# Altium schematic symbol library CON_DIVERSOS.SchLib: 77 symbols (part 3 of 4)
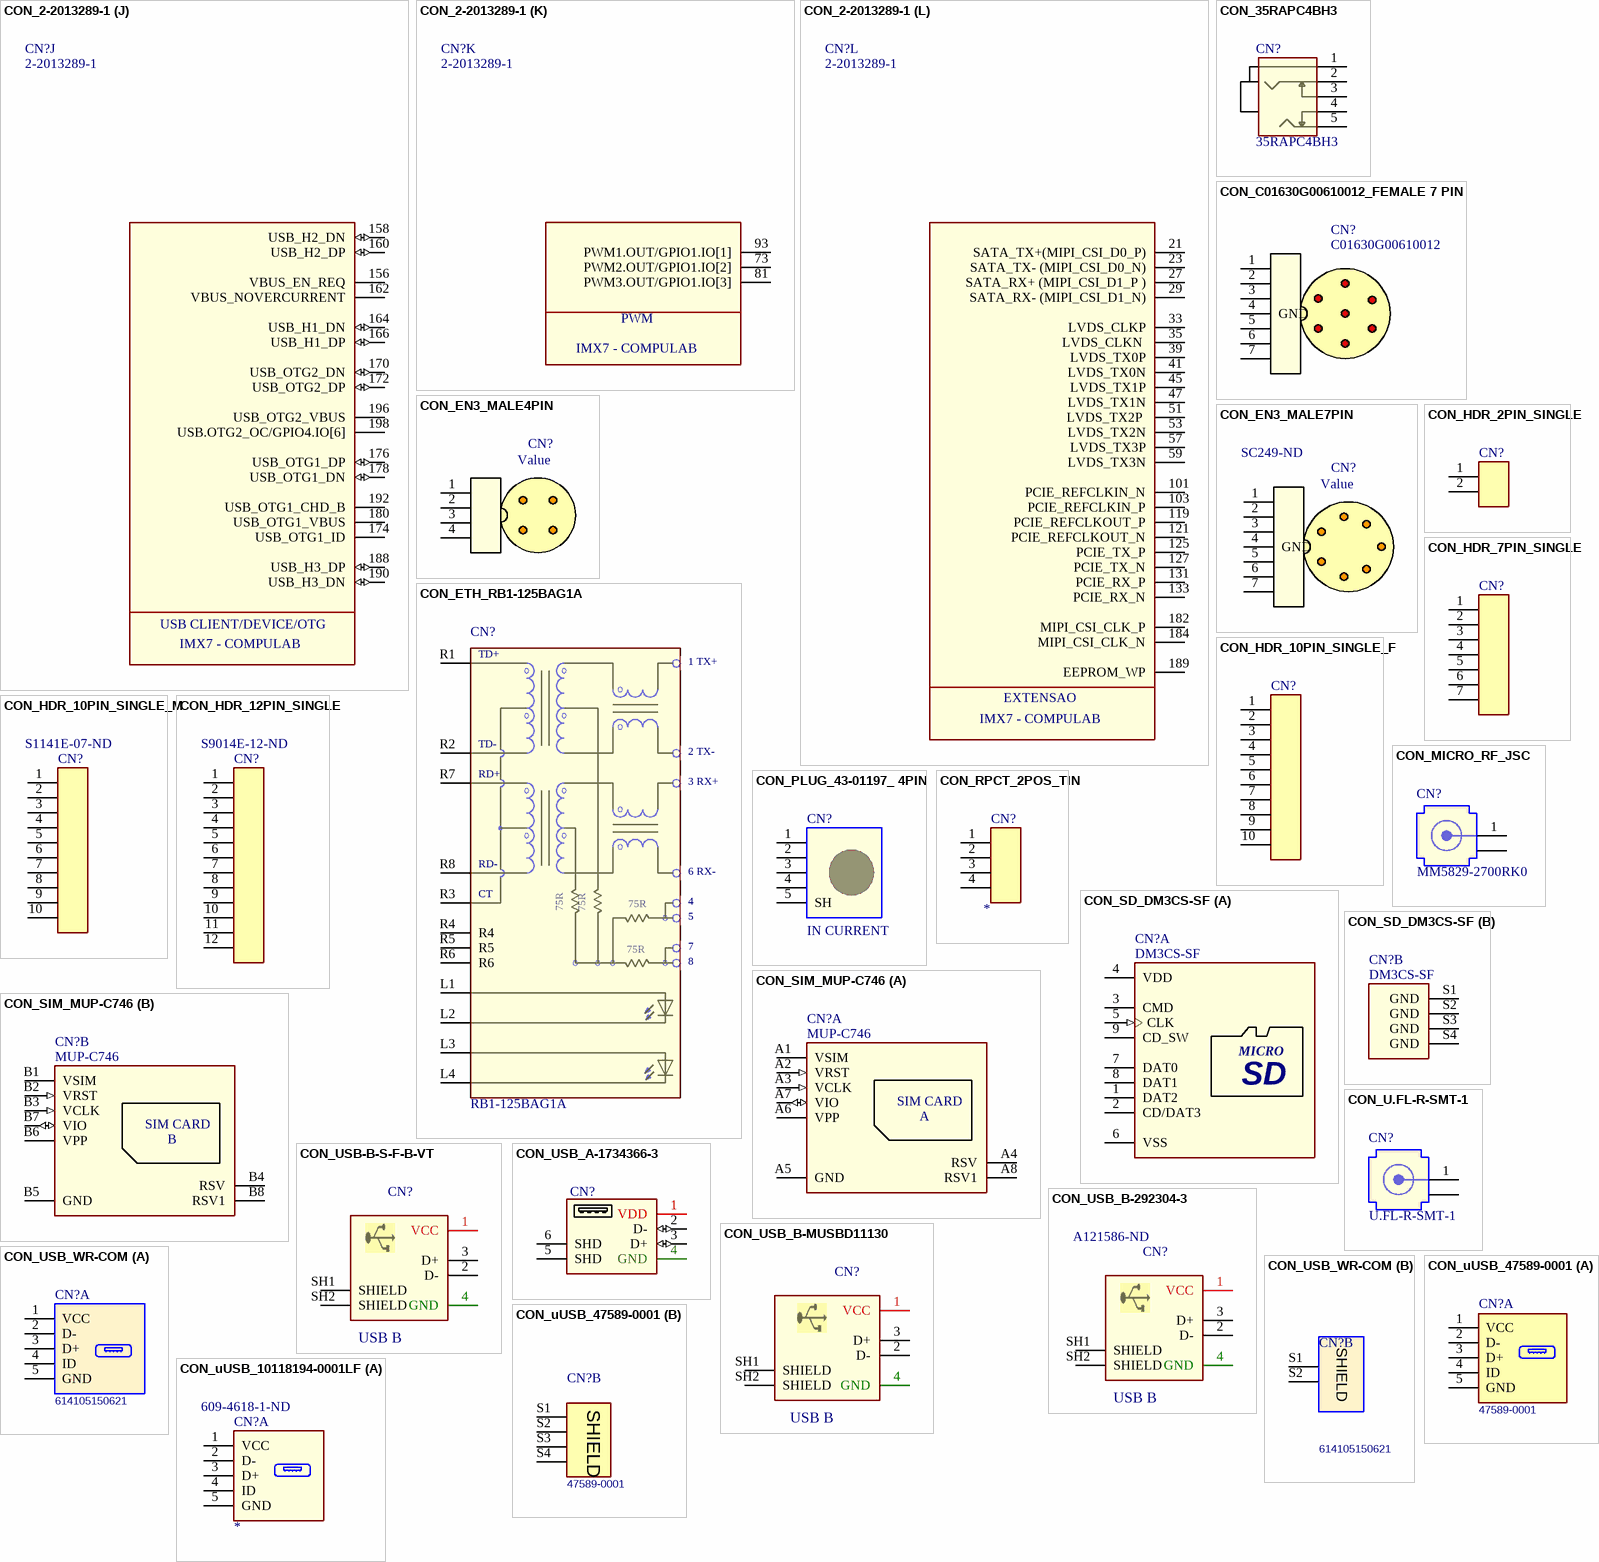
[diagram p7: symbols CON_2-2013289-1 to CON_uUSB_10118194-0001LF]

## CON_USB_B-MUSBD11130
designator CN?, comment USB B
CONN RCPT USB2.0 TYPEB 4P PCB RA; MPN: MUSBD11130-ND; Manufacturer: Amphenol Commercial; Manufacturer Part Number: MUSBD11130; fabricante: Amphenol ICC (Commercial Products); Product_Type: Connector; Gender: Receptacle; Connector Type: USB,Receptacle; Number of Ports: 1; Max Current Rating: 1.5A; Voltage Rating (DC): 100V; Number of Contacts: 4; Insulation Resistance: 1GR; Pitch: 2.5mm; Ratings: IP67,Waterproof,Dust Tight; footprint: *; Value: *; ComponentLink1Description: LOJA; ComponentLink1URL: https://www.digikey.com/products/en?keywords=292304-3; Supplier 1: Digi-Key; Supplier Part Number 1: MUSBD11130-ND; Stock 1: 1678; Pricing 1: 1=8,76000, 10=8,37500, 25=7,61400, 50=7,23340, 100=7,04300, 250=6,28156, 500=5,90086, 1000=5,49900 (USD); RoHS: Yes; Mount: Through Hole,Panel; Color: Black; Contact Plating: Gold; Contact Material: Bronze; Number of Terminals: 4; Housing Material: Thermoplastic; Min Operating Temperature: -40°C; Max Operating Temperature: 105°C; Package Quantity: 60; Packaging: Bulk; Current Rating: 1.5A; Termination: Solder; Number of Positions: 4; Orientation: Right Angle; USB Standard: USB 2.0; Features: Shielded; Length: 28mm; Depth: 18.5mm; Radiation Hardening: No; REACH SVHC: Unknown; Lead Free: Lead Free; Flammability Rating: UL94 V-0; ComponentLink2URL: https://datasheet.ciiva.com/851/musbd111xx-851379.pdf?src-supplier=Digi-Key; ComponentLink2Description: https://datasheet.ciiva.com/851/musbd111xx-851379.pdf?src-supplier=Digi-Key; ComponentLink3URL: https://datasheet.ciiva.com/11754/0900766b80fae0c2-11754939.pdf?src-supplier=RSComponents; ComponentLink3Description: https://datasheet.ciiva.com/11754/0900766b80fae0c2-11754939.pdf?src-supplier=RSComponents; ComponentLink4URL: https://datasheet.ciiva.com/10945/musbd111xx-10945157.pdf?src-supplier=Avnet; ComponentLink4Description: https://datasheet.ciiva.com/10945/musbd111xx-10945157.pdf?src-supplier=Avnet; ComponentLink5URL: https://datasheet.ciiva.com/15226/getdatasheetpartid-714005-15226501.pdf?src-supplier=Verical; ComponentLink5Description: https://datasheet.ciiva.com/15226/getdatasheetpartid-714005-15226501.pdf?src-supplier=Verical; ComponentLink6URL: https://datasheet.ciiva.com/18449/70144948-18449493.pdf?src-supplier=Allied+Electronics; ComponentLink6Description: https://datasheet.ciiva.com/18449/70144948-18449493.pdf?src-supplier=Allied+Electronics; ComponentLink7URL: https://datasheet.ciiva.com/23622/1916312-23622406.pdf?src-supplier=Newark; ComponentLink7Description: https://datasheet.ciiva.com/23622/1916312-23622406.pdf?src-supplier=Newark; ComponentLink8URL: https://datasheet.ciiva.com/3095/musbd111xx-3095277.pdf?src-supplier=Avnet; ComponentLink8Description: https://datasheet.ciiva.com/3095/musbd111xx-3095277.pdf?src-supplier=Avnet; ComponentLink9URL: https://datasheet.ciiva.com/16470/musbd111xx-16470429.pdf?src-supplier=Future+Electronics; ComponentLink9Description: https://datasheet.ciiva.com/16470/musbd111xx-16470429.pdf?src-supplier=Future+Electronics; ComponentLink10URL: https://datasheet.ciiva.com/16668/musbd111xx-16668143.pdf?src-supplier=Avnet+Europe; ComponentLink10Description: https://datasheet.ciiva.com/16668/musbd111xx-16668143.pdf?src-supplier=Avnet+Europe
footprint USB_TypeB_MUSBD11130 (USB connector type B)
pins: 1 VCC (power), 2 D-, 3 D+, 4 GND (power), SH1 SHIELD, SH2 SHIELD

## CON_USB_WR-COM
designator CN?, comment 614105150621
USB - posição do conector 5 do micro receptáculo USB 2.0 USB - CONN RCPT USB2.0 MICRO AB VERT; Manufacturer: Wurth Electronics; Fabricante: Würth Elektronik; No. of ways: 5; Gender: Receptacle; Value: 614105150621; Footprint: TH Vertical; ComponentLink1Description: DATASHEET; ComponentLink1URL: https://katalog.we-online.de/em/datasheet/614105150621.pdf; ComponentLink2Description: LOJA; ComponentLink2URL: https://www.digikey.com/product-detail/en/w-rth-elektronik/614105150621/732-5959-1-ND/5047552; Supplier 1: Digi-Key; Supplier Part Number 1: 732-5959-1-ND; Manufacturer Part Number: 614105150621; Stock 1: 2750; Pricing 1: 1=1,98000, 10=1,81400, 50=1,68000, 100=1,54600, 500=1,34400 (USD); RoHS: Yes; Mount: Through Hole,Vertical; Contact Material: Copper Alloy; Contact Plating: Gold; Packaging: Tape and Reel; Connector Type: USB; Number of Contacts: 5; Orientation: Vertical; USB Standard: USB 2.0; Features: Shielded; REACH SVHC: Unknown; ComponentLink3URL: https://www.distrelec.biz/Web/Downloads/40/29/614105150621.pdf?mime=application%2Fpdf&src-supplier=Distrelec; ComponentLink3Description: https://www.distrelec.biz/Web/Downloads/40/29/614105150621.pdf?mime=application%2Fpdf&src-supplier=Distrelec; ComponentLink4URL: http://katalog.we-online.de/em/datasheet/614105150621.pdf?src-supplier=Distrelec; ComponentLink4Description: http://katalog.we-online.de/em/datasheet/614105150621.pdf?src-supplier=Distrelec; ComponentLink5URL: http://katalog.we-online.de/em/datasheet/614105150621.pdf?src-supplier=Newark; ComponentLink5Description: http://katalog.we-online.de/em/datasheet/614105150621.pdf?src-supplier=Newark; ComponentLink6URL: http://www.farnell.com/cad/2130952.pdf?src-supplier=Element14; ComponentLink6Description: http://www.farnell.com/cad/2130952.pdf?src-supplier=Element14; ComponentLink7URL: http://katalog.we-online.de/em/datasheet/614105150621.pdf?src-supplier=Farnell; ComponentLink7Description: http://katalog.we-online.de/em/datasheet/614105150621.pdf?src-supplier=Farnell; ComponentLink8URL: http://katalog.we-online.de/em/datasheet/614105150621.pdf?src-supplier=Mouser; ComponentLink8Description: http://katalog.we-online.de/em/datasheet/614105150621.pdf?src-supplier=Mouser; ComponentLink9URL: http://katalog.we-online.de/em/datasheet/614105150621.pdf?src-supplier=Allied+Electronics; ComponentLink9Description: http://katalog.we-online.de/em/datasheet/614105150621.pdf?src-supplier=Allied+Electronics; ComponentLink10URL: https://katalog.we-online.de/em/datasheet/614105150621.pdf?src-supplier=Digi-Key; ComponentLink10Description: https://katalog.we-online.de/em/datasheet/614105150621.pdf?src-supplier=Digi-Key; ComponentLink11URL: http://katalog.we-online.de/em/datasheet/614105150621.pdf?src-supplier=RSComponents; ComponentLink11Description: http://katalog.we-online.de/em/datasheet/614105150621.pdf?src-supplier=RSComponents; MPN: 614105150621
footprint GCT_USB3105-30-A (Micro USB Connector Vertical)
part A pins: 1 VCC (power), 2 D-, 3 D+, 4 ID, 5 GND (power)
part B pins: S1 SHIELD, S2 SHIELD

## CON_uUSB_47589-0001
designator CN?, comment MPN: 47589-0001  (hidden comment: 47589-0001-5-0.65)
CONN RCPT MICRO USB AB 5P SMD RA; Fabricante: Molex; No. of ways: 5; Max Voltage Rating (AC): 100V; Gender: Female; Connector Type: USB,Receptacle; Number of Ports: 1; Contact Resistance: 40mR; Current Rating: 1.8A; Voltage Rating (AC): 30V; USB Standard: USB 2.0; Pitch: 0.65mm; Value: *; Footprint: SMD R/A; ComponentLink1Description: LOJA; ComponentLink1URL: https://www.digikey.com/product-detail/en/molex/0475890001/WM17143CT-ND/1832255; Supplier 1: Digi-Key; Supplier Part Number 1: WM17143CT-ND; Manufacturer: Molex; Manufacturer Part Number: 47589-0001; Stock 1: 14454; Pricing 1: 1=0,78000, 10=0,68200, 25=0,64160, 50=0,61480, 100=0,58810, 250=0,53460, 500=0,48114 (USD); RoHS: Yes; Mount: Surface Mount,PCB; Weight: 0.01lb; Contact Plating: Gold; Contact Material: Copper Alloy,Copper; Number of Terminals: 5; Housing Material: Polymer; Color: Black; Min Operating Temperature: -20°C; Max Operating Temperature: 85°C; Packaging: Tape and Reel; Termination: Solder; Orientation: Right Angle; Number of Contacts: 5; Voltage Rating: 30V; Length: 8.65mm; Height: 0.25inch; Width: 0.25inch; Radiation Hardening: No; REACH SVHC: Unknown; ComponentLink2URL: https://datasheet.ciiva.com/16148/0475890001-io-connectors-16148921.pdf?src-supplier=Onlinecomponents.com; ComponentLink2Description: https://datasheet.ciiva.com/16148/0475890001-io-connectors-16148921.pdf?src-supplier=Onlinecomponents.com; ComponentLink3URL: https://datasheet.ciiva.com/1098/1597783-1098478.pdf?src-supplier=Element14; ComponentLink3Description: https://datasheet.ciiva.com/1098/1597783-1098478.pdf?src-supplier=Element14; ComponentLink4URL: https://datasheet.ciiva.com/15181/getdatasheetpartid-158670-15181214.pdf?src-supplier=Verical; ComponentLink4Description: https://datasheet.ciiva.com/15181/getdatasheetpartid-158670-15181214.pdf?src-supplier=Verical; ComponentLink5URL: https://datasheet.ciiva.com/11731/0900766b80dfe0a8-11731295.pdf?src-supplier=RSComponents; ComponentLink5Description: https://datasheet.ciiva.com/11731/0900766b80dfe0a8-11731295.pdf?src-supplier=RSComponents; ComponentLink6URL: https://datasheet.ciiva.com/32371/0475890001-io-connectors-32371755.pdf?src-supplier=Onlinecomponents.com; ComponentLink6Description: https://datasheet.ciiva.com/32371/0475890001-io-connectors-32371755.pdf?src-supplier=Onlinecomponents.com
footprint T_Molex_47589-0001 (Micro USB Connector)
part A pins: 1 VCC (power), 2 D-, 3 D+, 4 ID, 5 GND (power)
part B pins: S1 SHIELD, S2 SHIELD, S3 SHIELD, S4 SHIELD

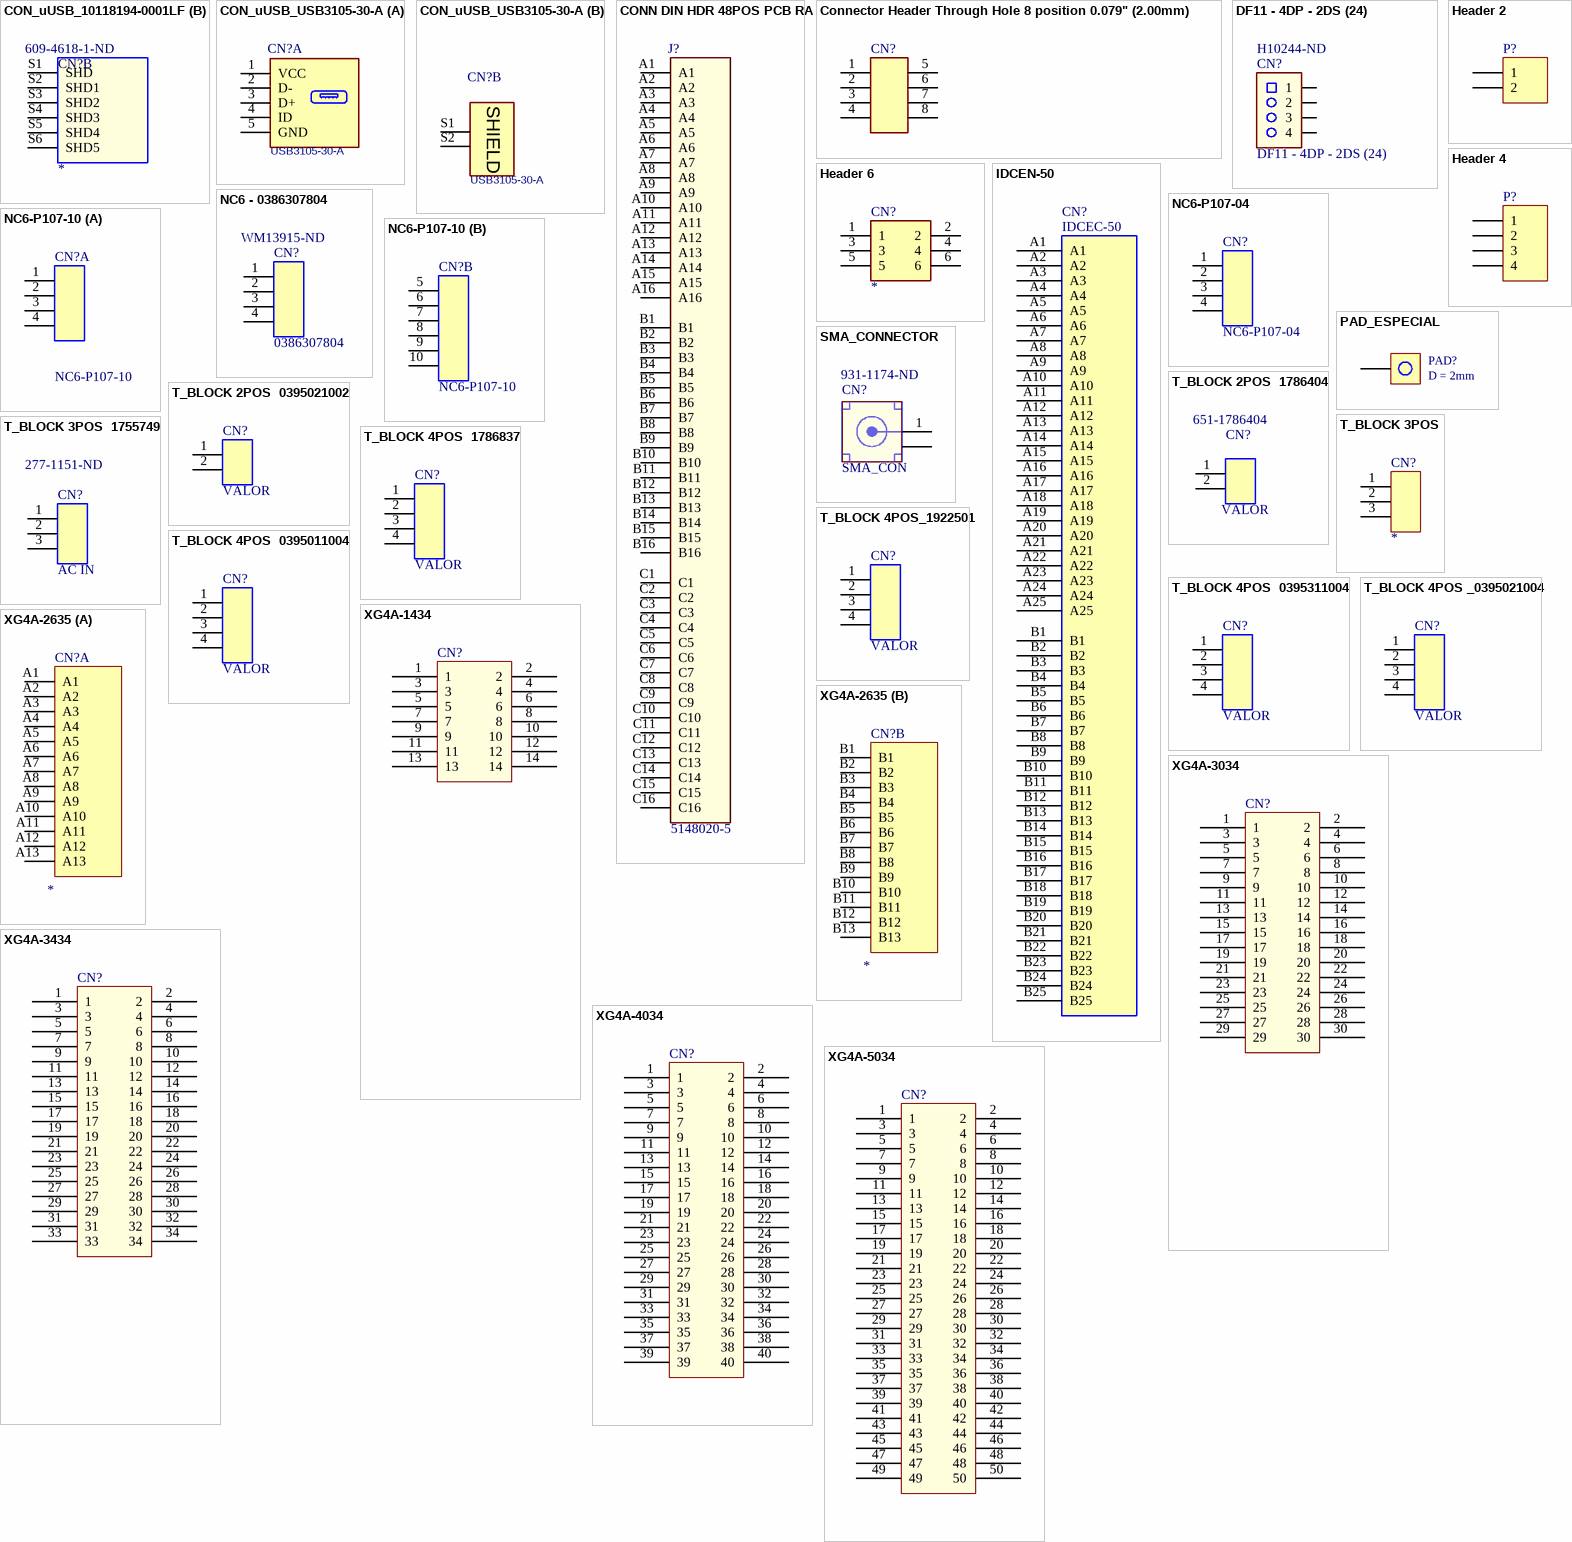
[diagram p5: symbols CON_uUSB_10118194-0001LF to XG4A-5034]

## CON_uUSB_10118194-0001LF
designator CN?  Supplier Part Number 1: 609-4618-1-ND
CONN USB MICRO B RECPT SMT R/A; MPN: 10118194-0001LF; Manufacturer: Amphenol FCI; Fabricante: Amphenol ICC; Gender: Receptacle; Current Rating: 1.8A; Connector Type: USB,Receptacle; Number of Contacts: 5; Insulation Resistance: 1GR; Number of Ports: 1; Max Voltage Rating (AC): 100V; Pitch: 0.65mm; Footprint: SMD R/A; Digi-Key_Part_Number: 609-4618-1-ND; Value: *; ComponentLink1Description: LOJA; ComponentLink1URL: https://www.digikey.com/product-detail/en/amphenol-icc-fci/10118194-0001LF/609-4618-1-ND/2785382; ComponentLink2Description: DATASHEET; ComponentLink2URL: https://cdn.amphenol-icc.com/media/wysiwyg/files/documentation/datasheet/inputoutput/io_usb_micro.pdf; Supplier 1: Digi-Key; Manufacturer Part Number: 10118194-0001LF; RoHS: Yes; Category: USB Connectors; Stock 1: 50640; Pricing 1: 1=0,43000, 10=0,40500, 25=0,36480, 50=0,32420, 100=0,31070, 250=0,28368, 500=0,27016 (USD); Mount: Surface Mount,Horizontal; Color: Black; Contact Material: Copper Alloy; Contact Plating: Gold; Number of Terminals: 5; Housing Material: Polymer; Min Operating Temperature: -55°C; Max Operating Temperature: 85°C; Package Quantity: 9600; Packaging: Tape and Reel; Termination: Solder; Orientation: Right Angle; Features: Shielded; Length: 8.05mm; Depth: 5mm; Radiation Hardening: No; Lead Free: Lead Free; Flammability Rating: UL94 V-0; ComponentLink3URL: https://datasheet.ciiva.com/4598/10118194ac-197217-4598807.pdf?src-supplier=Mouser; ComponentLink3Description: https://datasheet.ciiva.com/4598/10118194ac-197217-4598807.pdf?src-supplier=Mouser; ComponentLink4URL: https://datasheet.ciiva.com/26945/getdatasheetpartid-418619-26945695.pdf?src-supplier=Verical; ComponentLink4Description: https://datasheet.ciiva.com/26945/getdatasheetpartid-418619-26945695.pdf?src-supplier=Verical; ComponentLink5URL: https://datasheet.ciiva.com/851/10118194-851110.pdf?src-supplier=Digi-Key; ComponentLink5Description: https://datasheet.ciiva.com/851/10118194-851110.pdf?src-supplier=Digi-Key; ComponentLink6URL: https://datasheet.ciiva.com/851/10118194-851111.pdf?src-supplier=Digi-Key; ComponentLink6Description: https://datasheet.ciiva.com/851/10118194-851111.pdf?src-supplier=Digi-Key
footprint uUSB_10118194-0001LF (SMD R/A)
part A pins: 1 VCC (power), 2 D-, 3 D+, 4 ID, 5 GND
part B pins: S1 SHD, S2 SHD1, S3 SHD2, S4 SHD3, S5 SHD4, S6 SHD5

## CON_uUSB_USB3105-30-A
designator CN?, comment USB3105-30-A
Micro USB OTG Connector - TH - Vertical; Manufacturer: Global Connector Technology; Fabricante: GCT; No. of ways: 5; Gender: Receptacle; USB Standard: USB 2.0; Value: USB3105-30-A; Footprint: TH Vertical; Supplier 1: Digi-Key; Supplier Part Number 1: 2073-USB3105-30-ADKR-ND; Manufacturer Part Number: USB3105-30-A; Stock 1: 0; RoHS: Yes; Mount: Through Hole; Weight: 0.001lb; Contact Plating: Gold; Contact Material: Copper Alloy,Copper; Connector Type: USB; Termination: Through Hole; Number of Contacts: 5; Number of Positions: 5; Orientation: Vertical; Length: 0.625inch; Height: 0.625inch; Width: 0.625inch; REACH SVHC: No SVHC; Lead Free: Lead Free; ComponentLink1URL: https://datasheet.ciiva.com/28420/usb3105-28420464.pdf?src-supplier=Element14; ComponentLink1Description: https://datasheet.ciiva.com/28420/usb3105-28420464.pdf?src-supplier=Element14; ComponentLink2URL: https://datasheet.ciiva.com/22636/1688113-22636802.pdf?src-supplier=Element14; ComponentLink2Description: https://datasheet.ciiva.com/22636/1688113-22636802.pdf?src-supplier=Element14; ComponentLink3URL: https://datasheet.ciiva.com/16368/usb3105-16368828.pdf?src-supplier=Future+Electronics; ComponentLink3Description: https://datasheet.ciiva.com/16368/usb3105-16368828.pdf?src-supplier=Future+Electronics; MPN: USB3105-30-A
footprint GCT_USB3105-30-A (Micro USB Connector Vertical)
part A pins: 1 VCC (power), 2 D-, 3 D+, 4 ID, 5 GND (power)
part B pins: S1 SHIELD, S2 SHIELD

## CONN DIN HDR 48POS PCB RA
designator J?, comment 5148020-5
48 Position Din Connector Header, Male Pins  Through Hole, Right Angle; Manufacturer: TE Connectivity AMP; FABRICANTE: TE Connectivity AMP Connectors; Connector Type: Plug,Connector,Pin; Number of Positions: 48; Connector System: Board-to-Board; Make First / Break Last: No; Mating Alignment: Yes (With); Number of Columns: 16; PCB Mount Alignment: No (Without); PCB Mount Retention: With; Plating Thickness: 1.27um; Row Spacing: 2.54mm; Contact Post Length: 2.65mm; Tail Length: 3mm; Value: 148020-5; ComponentLink1Description: LOJA; ComponentLink1URL: https://www.digikey.com/products/en?mpart=148020-5&v=17; ComponentLink2Description: DATASHEET; ComponentLink2URL: https://www.te.com/commerce/DocumentDelivery/DDEController?Action=srchrtrv&DocNm=148020&DocType=Customer+Drawing&DocLang=English; MPN: 148020-5; Footprint: TE_5148020; Supplier 1: Digi-Key; Supplier Part Number 1: A107590-ND; Manufacturer Part Number: 148020-5; Stock 1: 145; Pricing 1: 1=4,42000, 10=4,24100, 25=3,88760, 50=3,71080, 100=3,53400, 250=3,09224, 500=3,00390, 1000=2,56215, 2500=2,38545 (USD); RoHS: Yes; Mount: Through Hole; Contact Plating: Nickel,Tin,Lead; Contact Material: Brass; Housing Material: Polyester; Housing Color: Grey; Color: Grey; Min Operating Temperature: -55°C; Max Operating Temperature: 125°C; Packaging: Bulk; Termination: Solder; Orientation: Right Angle; Package Quantity: 30; Number of Rows: 3; Number of Contacts: 48; Mating Retention: Yes (With); PCB Mounting Orientation: Right Angle; Pitch: 2.54mm; ELV: Compliant; Flammability Rating: UL94 V-0; ComponentLink3URL: https://datasheet.ciiva.com/15062/eng-cd-148020-d-15062786.pdf?src-supplier=Digi-Key; ComponentLink3Description: https://datasheet.ciiva.com/15062/eng-cd-148020-d-15062786.pdf?src-supplier=Digi-Key
footprint 5148020-5 (Conn DIN 41612 M 48 POS 2.54mm Solder RA Thru-Hole Tray)
pins: A1, A2, A3, A4, A5, A6, A7, A8, A9, A10, A11, A12, A13, A14, A15, A16, B1, B2, B3, B4, B5, B6, B7, B8, B9, B10, B11, B12, B13, B14, B15, B16, C1, C2, C3, C4, C5, C6, C7, C8, C9, C10, C11, C12, C13, C14, C15, C16

## Connector Header Through Hole 8 position 0.079" (2.00mm)
designator CN?, comment B8B-PHDSS(LF)(SN)  (value not drawn)
CONN HEADER VERT 8POS 2MM; Manufacturer: JST; Fabricante: JST Sales America Inc.; Connector Type: Male Pin; Number of Positions: 8; Pitch: 0.079inch; MPN: B8B-PHDSS(LF)(SN); Value: B8B-PHDSS(LF)(SN); ComponentLink1Description: LOJA; ComponentLink1URL: https://www.digikey.com/product-detail/en/sullins-connector-solutions/PBC07SBDN/S1141E-07-ND/860455; Supplier 1: Digi-Key; Supplier Part Number 1: 455-2230-ND; Manufacturer Part Number: B8B-PHDSS(LF)(SN); Stock 1: 0; Pricing 1: 1=0,46000, 10=0,43800, 100=0,30640, 500=0,26262, 1000=0,21885, 5000=0,18758, 10000=0,17508 (USD); RoHS: Yes; Mount: Through Hole; Color: Natural; Contact Plating: Tin,Lead; Packaging: Bulk; Number of Rows: 2; Termination: Solder; Fastening Type: Detent; Row Spacing: 0.079inch; Contact Mating Length: 0.114inch; Lead Free: Lead Free; ComponentLink2URL: https://datasheet.ciiva.com/16418/ephd-16418246.pdf?src-supplier=Future+Electronics; ComponentLink2Description: https://datasheet.ciiva.com/16418/ephd-16418246.pdf?src-supplier=Future+Electronics
footprint B8B-PHDSS(LF)(SN) (CONN HEADER VERT 8POS 2MM)
pins: 1, 2, 3, 4, 5, 6, 7, 8

## DF11 - 4DP - 2DS (24)
designator CN?  Supplier Part Number 2: H10244-ND
HIROSE(HRS) - DF11-4DP-2DS(24) - Wire-To-Board Connector, Right Angle, DF11 Series, Through Hole, Header, 4, 2 mm RoHS Compliant: Yes; Manufacturer Part Number: DF11-24DP-2DS(24); Fabricante: Hirose Electric; Number of Contacts: 24; Connector Type: Male Pin; Gender: Male; Current Rating: 2A; Voltage Rating: 250V; Contact Resistance: 30mR; Insulation Resistance: 1GR; Mating Cycles: 30; Voltage Rating (AC): 30V; Pitch: 2mm; Row Spacing: 0.079inch; Footprint: HEADER 4 PIN R/A; MPN: DF11 - 4DP - 2DS (24); Value: DF11 - 4DP - 2DS (24); ComponentLink1Description: LOJA; ComponentLink1URL: https://www.digikey.com/product-detail/en/hirose-electric-co-ltd/DF11-4DP-2DS-24/H10244-ND/934362; Supplier 1: Mouser; Supplier Part Number 1: 798-DF11-24DP-2DS24; Manufacturer: Hirose; Stock 1: 318; Pricing 1: 1=1,43000, 10=1,17000, 100=1,11000, 250=1,00000, 500=0,92800, 1000=0,79500 (USD); RoHS: Yes; Mount: Through Hole; Contact Plating: Tin; Housing Material: Polyamide; Housing Color: Black; Contact Material: Brass,Copper Alloy,Tin; Color: Black; Number of Rows: 2; Termination: Solder; Package Quantity: 18; Packaging: Rail/Tube; Number of Positions: 24; Fastening Type: Detent; Orientation: Right Angle; Contact Mating Length: 0.118inch; Lead Pitch: 2mm; Lead Free: Lead Free; REACH SVHC: No SVHC; Flammability Rating: UL94 V-0; ComponentLink2URL: https://datasheet.ciiva.com/14667/0900766b80d975f3-14667398.pdf?src-supplier=RSComponents; ComponentLink2Description: https://datasheet.ciiva.com/14667/0900766b80d975f3-14667398.pdf?src-supplier=RSComponents; ComponentLink3URL: https://datasheet.ciiva.com/11752/0900766b8080dda0-11752259.pdf?src-supplier=RSComponents; ComponentLink3Description: https://datasheet.ciiva.com/11752/0900766b8080dda0-11752259.pdf?src-supplier=RSComponents; Supplier 2: Digi-Key; Category: Headers and Wire Housings; Pricing 2: 1=0,42000, 10=0,39000, 100=0,29900, 500=0,26000, 1000=0,21450, 5000=0,18850, 10000=0,17550 (USD); Min Operating Temperature: -30°C; Max Operating Temperature: 85°C; Max Current Rating: 2A; Length: 6mm; Depth: 10mm; Radiation Hardening: No; ComponentLink4URL: https://datasheet.ciiva.com/26897/getdatasheetpartid-441253-26897573.pdf?src-supplier=Verical; ComponentLink4Description: https://datasheet.ciiva.com/26897/getdatasheetpartid-441253-26897573.pdf?src-supplier=Verical; ComponentLink5URL: https://datasheet.ciiva.com/11749/0900766b80d975f3-11749340.pdf?src-supplier=RSComponents; ComponentLink5Description: https://datasheet.ciiva.com/11749/0900766b80d975f3-11749340.pdf?src-supplier=RSComponents; ComponentLink6URL: https://datasheet.ciiva.com/16395/en-df11-20130411-16395966.pdf?src-supplier=Future+Electronics; ComponentLink6Description: https://datasheet.ciiva.com/16395/en-df11-20130411-16395966.pdf?src-supplier=Future+Electronics; ComponentLink7URL: https://datasheet.ciiva.com/7995/91550-7995527.pdf?src-supplier=Element14; ComponentLink7Description: https://datasheet.ciiva.com/7995/91550-7995527.pdf?src-supplier=Element14; ComponentLink8URL: https://datasheet.ciiva.com/14122/df11serie-eng-tds-14122263.pdf?src-supplier=Distrelec; ComponentLink8Description: https://datasheet.ciiva.com/14122/df11serie-eng-tds-14122263.pdf?src-supplier=Distrelec
footprint HRS_DF11- 4DP - 2DSA (Cabeçalho do conector no orifício, posição 4 em ângulo reto 0,079 "(2,00 mm))
pins: 1, 2, 3, 4

## Header 2
designator P?
Header, 2-Pin; Manufacturer: Wurth Electronics; Fabricante: Würth Elektronik; MNP: 61300211121; Current Rating: 3A; Voltage Rating: 250V; Number of Positions: 2; Gender: Male; Connector Type: Male Pin; Pitch: 0.1inch; ComponentLink1Description: LOJA; ComponentLink1URL: https://www.digikey.com/product-detail/en/w-rth-elektronik/61300211121/732-5315-ND/4846823; Footprint: *; Valor: *; Supplier 1: Digi-Key; Supplier Part Number 1: 732-5315-ND; Manufacturer Part Number: 61300211121; Stock 1: 113181; Pricing 1: 1=0,13000, 10=0,10600, 25=0,08800, 50=0,07400, 100=0,06700, 1000=0,06100 (USD); RoHS: Yes; Mount: Through Hole; Contact Plating: Gold; Housing Material: PBT; Contact Material: Copper Alloy,Copper; Color: Black; Min Operating Temperature: -40°C; Max Operating Temperature: 125°C; Number of Rows: 1; Contact Gender: Male; Packaging: Bulk; Termination: Through Hole; Number of Contacts: 2; Contact Mating Length: 0.236inch; REACH SVHC: Unknown; Lead Free: Lead Free; ComponentLink2URL: https://datasheet.ciiva.com/13619/6130xx11121-48870-13619345.pdf?src-supplier=Mouser; ComponentLink2Description: https://datasheet.ciiva.com/13619/6130xx11121-48870-13619345.pdf?src-supplier=Mouser
footprint HDR1X2 (Connector; Header; 2 Position)
signal-integrity model Connector
footprint HDR1X2 (Connector; Header; 2 Position)
pins: 1, 2

## Header 4
designator P?, comment Header, 4-Pin  (value not drawn)
footprint Header 4 (Header, 4-Pin)
pins: 1, 2, 3, 4

## Header 6
designator CN?
Connector Header Through Hole 6 position 0.100 _2.54mm_; MPN: 67997-206HLF; Manufacturer: Amphenol FCI; Value: COMENTÁRIO; Fabricante: Amphenol ICC; Gender: Male; Number of Positions: 6; Insulation Resistance: 5GR; Max Voltage Rating (AC): 1.5kV; Connector Type: Male Pin; Current Rating: 3A; Pitch: 2.54mm; Contact Post Length: 3.05mm; Row Spacing: 0.1inch; Footprint: 67997-206HLF; Supplier 1: Digi-Key; Supplier Part Number 1: 609-3234-ND; Manufacturer Part Number: 67997-206HLF; Stock 1: 12701; Pricing 1: 1=0,33000, 10=0,31600, 100=0,22120, 500=0,18964, 1000=0,15803, 5000=0,13545, 10000=0,12642 (USD); RoHS: Yes; Mount: Through Hole; Housing Color: Black; Housing Material: Thermoplastic; Contact Plating: Gold,GXT; Contact Material: Bronze; Color: Black; Min Operating Temperature: -65°C; Max Operating Temperature: 125°C; Orientation: Straight; Termination: Solder; Number of Contacts: 6; Number of Rows: 2; Contact Gender: Male; Packaging: Bulk; Package Quantity: 100; Voltage Rating: 1.5kV; Length: 7.62mm; Contact Mating Length: 0.23inch; Depth: 4.83mm; Radiation Hardening: No; Flammability Rating: UL94 V-0; ComponentLink1URL: https://datasheet.ciiva.com/5150/67996-223474-5150000.pdf?src-supplier=Mouser; ComponentLink1Description: https://datasheet.ciiva.com/5150/67996-223474-5150000.pdf?src-supplier=Mouser; ComponentLink2URL: https://datasheet.ciiva.com/9474/67996-9474266.pdf?src-supplier=Avnet; ComponentLink2Description: https://datasheet.ciiva.com/9474/67996-9474266.pdf?src-supplier=Avnet; ComponentLink3URL: https://datasheet.ciiva.com/728/67996-728908.pdf?src-supplier=Digi-Key; ComponentLink3Description: https://datasheet.ciiva.com/728/67996-728908.pdf?src-supplier=Digi-Key
footprint FRAMATOME_67997-206HLF
pins: 1, 2, 3, 4, 5, 6

## IDCEN-50
designator CN?, comment IDCEC-50
Fabricante: Metaltex; Footprint: *; MPN: IDCEC-50; Value: IDCEC-50
footprint IDCEN-50 (Header flat connector IDC)
pins: A1, A2, A3, A4, A5, A6, A7, A8, A9, A10, A11, A12, A13, A14, A15, A16, A17, A18, A19, A20, A21, A22, A23, A24, A25, B1, B2, B3, B4, B5, B6, B7, B8, B9, B10, B11, B12, B13, B14, B15, B16, B17, B18, B19, B20, B21, B22, B23, B24, B25

## NC6 - 0386307804
designator CN?, comment 0386307804  Supplier Part Number 1: WM13915-ND
CONN BARRIER STRP 4CIRC 0.375"; Fabricante: molex; ComponentLink1Description: LOJA; ComponentLink1URL: https://www.digikey.com/en/products/detail/molex/0386307804/3315482?s=N4IgTCBcDaIAwGYAcA2BcDsS4BYQF0BfIA; ComponentLink2Description: DATASHEET; ComponentLink2URL: https://www.molex.com/pdm_docs/sd/386307804_sd.pdf; Supplier 1: Digi-Key; Footprint: Barrier Block; MPN: 0386307804; Value: 0386307804
footprint NC6 - 0386307804 (4 Circuit 0.438" (11.12mm) Barrier Block Connector, Screws with Captive Plate)
pins: 1, 2, 3, 4

## NC6-P107-04
designator CN?
CONN BARRIER STRP 4CIRC 0.375"; Manufacturer: TE Connectivity; Fabricante: TE Connectivity AMP Connectors; Current Rating: 20A; Voltage Rating: 300V; Number of Contacts: 4; Mounting Ears: No (Without); Number of Levels: 1; Pitch: 9.53mm; value: NC6-P107-04; Footprint: Barrier Block PTH 4PIN; MPN: NC6-P107-04; ComponentLink1Description: LOJA; ComponentLink1URL: https://www.digikey.com/products/en?keywords=NC6-P107-04; ComponentLink2Description: DATASHEET; ComponentLink2URL: https://www.te.com/commerce/DocumentDelivery/DDEController?Action=srchrtrv&DocNm=1437664-4&DocType=Customer+Drawing&DocLang=English; Supplier 1: Digi-Key; Supplier Part Number 1: 1437664-6-ND; Manufacturer Part Number: NC6-P107-04; Stock 1: 2215; Pricing 1: 1=2,47000, 10=1,86700, 25=1,73040, 50=1,55580, 100=1,51790, 250=1,32816, 500=1,21432, 1000=1,10048, 5000=0,96766 (USD); RoHS: Yes; Mount: Through Hole; Color: Black; Terminal Material: Copper Alloy; Housing Color: Black; Contact Plating: Tin; Contact Material: Copper Alloy; Housing Material: Polyamide; Min Operating Temperature: -40°C; Max Operating Temperature: 221°C; Package Quantity: 200; Packaging: Bulk; Number of Rows: 1; Termination: Solder; Number of Circuits: 4; Orientation: Straight; Max Current Rating: 20A; Mounting Insert: No (Without); Voltage: 300V; Number of Positions: 4; Length: 1.559inch; Height: 0.65inch; Width: 0.63inch; Radiation Hardening: No; Flammability Rating: UL94 V-0; ELV: Compliant; ComponentLink3URL: http://www.mouser.com/ds/2/418/NG_CD_1437664-4_B1-648332.pdf?src-supplier=Mouser; ComponentLink3Description: http://www.mouser.com/ds/2/418/NG_CD_1437664-4_B1-648332.pdf?src-supplier=Mouser; ComponentLink4URL: http://www.onlinecomponents.com/datasheet/nc6p10704.aspx?p=10706578&src-supplier=Onlinecomponents.com; ComponentLink4Description: http://www.onlinecomponents.com/datasheet/nc6p10704.aspx?p=10706578&src-supplier=Onlinecomponents.com; ComponentLink5URL: https://www.te.com/commerce/DocumentDelivery/DDEController?Action=srchrtrv&amp;DocNm=1437664-4&amp;DocType=Customer+Drawing&amp;DocLang=English&src-supplier=Digi-Key; ComponentLink5Description: https://www.te.com/commerce/DocumentDelivery/DDEController?Action=srchrtrv&amp;DocNm=1437664-4&amp;DocType=Customer+Drawing&amp;DocLang=English&src-supplier=Digi-Key
footprint NC6-P107-04 (CONN BARRIER STRP 04CIRC 0.375")
pins: 1, 2, 3, 4

## NC6-P107-10
designator CN?
CONN BARRIER STRP 10CIRC 0.375"; Manufacturer: TE Connectivity AMP; Fabricante: TE Connectivity AMP Connectors; Current Rating: 20A; Voltage Rating: 300V; Number of Contacts: 10; Mounting Ears: No (Without); Number of Levels: 1; Pitch: 9.53mm; value: NC6-P107-10; Footprint: Barrier Block PTH 10 PIN; MPN: NC6-P107-10; ComponentLink1Description: DATASHEET; ComponentLink1URL: https://www.te.com/commerce/DocumentDelivery/DDEController?Action=srchrtrv&DocNm=1437664-4&DocType=Customer+Drawing&DocLang=English; ComponentLink2Description: LOJA; ComponentLink2URL: https://www.digikey.com/products/en?keywords=NC6-P107-10; Supplier 1: Digi-Key; Supplier Part Number 1: 1-1437664-4-ND; Manufacturer Part Number: NC6-P107-10; Stock 1: 627; Pricing 1: 1=5,52000, 10=4,21000, 25=3,94280, 50=3,50480, 100=3,42860, 250=3,16192, 500=2,85716, 1000=2,53334, 5000=2,38096 (USD); RoHS: Yes; Mount: Through Hole; Terminal Material: Copper Alloy; Color: Black; Contact Plating: Tin; Contact Material: Copper Alloy; Housing Material: Polyamide; Min Operating Temperature: -40°C; Max Operating Temperature: 221°C; Orientation: Straight; Number of Rows: 1; Package Quantity: 120; Termination: Screw; Number of Circuits: 10; Mounting Insert: No (Without); Voltage: 300V; Max Current Rating: 20A; Number of Positions: 10; Length: 3.809inch; Height: 0.65inch; Width: 0.63inch; Flammability Rating: UL94 V-0; ELV: Compliant; ComponentLink3URL: https://datasheet.ciiva.com/30252/eng-cs-1308389-barrier-strips-0607-30252969.pdf?src-supplier=Onlinecomponents.com; ComponentLink3Description: https://datasheet.ciiva.com/30252/eng-cs-1308389-barrier-strips-0607-30252969.pdf?src-supplier=Onlinecomponents.com
footprint NC6-P107-10 (CONN BARRIER STRP 10CIRC 0.375")
part A pins: 1, 2, 3, 4
part B pins: 5, 6, 7, 8, 9, 10

## PAD_ESPECIAL
designator PAD?, comment D = 2mm
footprint PAD_ESPECIAL (PAD DIAMENTRO 2mm)
pins: 1

## SMA_CONNECTOR
designator CN?, comment SMA_CON  Supplier Part Number 1: 931-1174-ND
CONN SMA JACK STR 50OHM EDGE MNT; Manufacturer: Taoglas; Manufacturer Part Number: EMPCB.SMAFSTJ.C.HT; Body Material: Brass; Plating: Nickel; Dielectric Material: PTFE; Polarity: Standard; Max Frequency: 12.4GHz; Insulation Resistance: 5GR; Impedance: 50R; Voltage Rating: 335V; Connector Type: SMA,Socket; ComponentLink1URL: https://datasheet.ciiva.com/29538/grm1885c1h151ga01-01-29538036.pdf?src-supplier=Digi-Key; ComponentLink1Description: https://datasheet.ciiva.com/29538/grm1885c1h151ga01-01-29538036.pdf?src-supplier=Digi-Key; Supplier 1: Digi-Key; RoHS: Yes; Category: RF / Coaxial Connectors; Stock 1: 626; Pricing 1: 1=2,89000, 100=2,82000, 500=2,64000, 1000=2,46001, 5000=2,29001, 10000=2,11000, 50000=1,98001 (USD); Mount: Edge; Case/Package: SMA; Contact Material: Brass; Contact Plating: Gold; Body Plating: Nickel; Housing Color: Silver; Termination: Solder; Package Quantity: 500; Fastening Type: Threaded; Packaging: Tray; Orientation: Straight; Frequency: 12.4GHz; ComponentLink2URL: https://datasheet.ciiva.com/12398/empcb-smafstj-c-ht-30838-12398136.pdf?src-supplier=Mouser; ComponentLink2Description: https://datasheet.ciiva.com/12398/empcb-smafstj-c-ht-30838-12398136.pdf?src-supplier=Mouser; ComponentLink3URL: https://datasheet.ciiva.com/7002/empcb-smafstj-c-ht-7002218.pdf?src-supplier=Digi-Key; ComponentLink3Description: https://datasheet.ciiva.com/7002/empcb-smafstj-c-ht-7002218.pdf?src-supplier=Digi-Key
footprint LPRS_SMA_CON
pins: 1 SIG, 2 GND, 3 GND, 4 GND, 5 GND

## T_BLOCK 2POS  1786404
designator CN?, comment VALOR  Supplier Part Number 1: 651-1786404
TERM BLOCK HDR 2POS 90DEG 5.08MM; MPN: 0395311004; Manufacturer 1: Phoenix Contact; Manufacturer Part Number 1: 1786404; Fabricante: MOLEX; Description 1: Pluggable Terminal Blocks 2 Pos 5.08mm pitch Thru Hole Invert Hdr; Number of Positions Per Level: 2; Number of Levels: 1; Current: 10A; Voltage: 300V; Current Rating: 12A; Voltage Rating: 320V; Connector Type: Socket; Approvals: UL,CSA,VDE,CB; value: VALOR; Footprint: TERM BLOCK  4POS; Supplier 1: Mouser; Stock 1: 0; Pricing 1: 1=2,23000, 10=2,17000, 25=2,11000, 50=2,02000, 100=1,86000, 250=1,72000 (USD); RoHS: Yes; Mount: Through Hole; Weight: 5.78493oz; Contact Material: Tin; Color: Green; Contact Plating: Tin; Housing Material: Polyamide; Housing Color: Green; Package Quantity: 50; Packaging: Bulk; Termination: Solder; Number of Rows: 1; Number of Poles: 2; Number of Positions: 2; Number of Contacts: 2; Max Current Rating: 12A; Orientation: Right Angle; Type: Integrated Circuit (IC); Length: 12.16mm; Height: 13.7mm; Pitch: 5.08mm; Width: 19mm; Depth: 19mm; Flammability Rating: UL94 V-0; Lead Free: Lead Free; ComponentLink1URL: https://datasheet.ciiva.com/16096/1786404-16096800.pdf?src-supplier=Onlinecomponents.com; ComponentLink1Description: https://datasheet.ciiva.com/16096/1786404-16096800.pdf?src-supplier=Onlinecomponents.com; ComponentLink2URL: https://datasheet.ciiva.com/11748/0900766b800b6097-11748807.pdf?src-supplier=RSComponents; ComponentLink2Description: https://datasheet.ciiva.com/11748/0900766b800b6097-11748807.pdf?src-supplier=RSComponents; ComponentLink3URL: https://datasheet.ciiva.com/6747/1786404-6747449.pdf?src-supplier=Digi-Key; ComponentLink3Description: https://datasheet.ciiva.com/6747/1786404-6747449.pdf?src-supplier=Digi-Key; ComponentLink4URL: https://datasheet.ciiva.com/29209/567660-da-01-de-grundgehaeuse-1786404-50-st-29209089.pdf?src-supplier=Conrad; ComponentLink4Description: https://datasheet.ciiva.com/29209/567660-da-01-de-grundgehaeuse-1786404-50-st-29209089.pdf?src-supplier=Conrad
footprint T_BLOCK_ 1786404 (2 Position Terminal Block Header, Female Sockets 0.200" (5.08mm) 90°, Right Angle  Through Hole)
pins: 1, 2

## T_BLOCK 2POS  0395021002
designator CN?, comment VALOR
TERM BLOCK HDR 2POS VERT 3.5MM; MPN: 0395021002; Fabricante: MOLEX; Contact Resistance: 8mR; Number of Positions: 2; Number of Levels: 1; Gender: Male; Current: 8A; Voltage: 300V; value: VALOR; Footprint: TERM BLOCK  4POS; ComponentLink1Description: LOJA; ComponentLink1URL: https://www.digikey.com/product-detail/en/molex/0395021002/WM7770-ND/1280621; Supplier 1: Digi-Key; Supplier Part Number 1: WM7770-ND; Manufacturer: Molex; Manufacturer Part Number: 0395021002; Stock 1: 16543; Pricing 1: 1=0,58000, 10=0,54000, 100=0,41400, 500=0,36000, 1000=0,29700, 5000=0,26100, 10000=0,24300 (USD); RoHS: Yes; Mount: Through Hole; Housing Color: Black; Contact Plating: Tin; Contact Material: Brass; Color: Black; Housing Material: Polyamide; Min Operating Temperature: -40°C; Max Operating Temperature: 105°C; Orientation: Right Angle; Number of Rows: 1; Termination: Solder; Number of Contacts: 2; Packaging: Bulk; Number of Positions Per Level: 2; Length: 8.39mm; Pitch: 3.5mm; Depth: 9.2mm; ComponentLink2URL: http://components.arrow.com/part/dataview/44158185S8381659N3303?src-supplier=Arrow; ComponentLink2Description: http://components.arrow.com/part/dataview/44158185S8381659N3303?src-supplier=Arrow; ComponentLink3URL: http://components.arrow.com/part/dataview/0323_01937424?src-supplier=Arrow+Europe; ComponentLink3Description: http://components.arrow.com/part/dataview/0323_01937424?src-supplier=Arrow+Europe; ComponentLink4URL: https://www.molex.com/pdm_docs/sd/395021002_sd.pdf?src-supplier=Digi-Key; ComponentLink4Description: https://www.molex.com/pdm_docs/sd/395021002_sd.pdf?src-supplier=Digi-Key; ComponentLink5URL: http://www.farnell.com/datasheets/1605031.pdf?src-supplier=Newark; ComponentLink5Description: http://www.farnell.com/datasheets/1605031.pdf?src-supplier=Newark; ComponentLink6URL: http://www.molex.com/webdocs/datasheets/pdf/en-us/0395021002_TERMINAL_BLOCKS.pdf?src-supplier=Avnet; ComponentLink6Description: http://www.molex.com/webdocs/datasheets/pdf/en-us/0395021002_TERMINAL_BLOCKS.pdf?src-supplier=Avnet
footprint T_BLOCK_ 0395021002_R/A (TERM BLOCK HDR 2POS 90DEG 3.5MM)
pins: 1, 2

## T_BLOCK 3POS
designator CN?
TERM BLOCK HDR 3POS VERT 3.5MM; MPN: OQ0312500000G; Manufacturer: Amphenol; Fabricante: Amphenol Anytek; value: *; Footprint: PTH, 3PIN; ComponentLink1Description: LOJA; ComponentLink1URL: https://www.digikey.com/product-detail/en/amphenol-anytek/OQ0312500000G/609-4980-ND/4243174; ComponentLink2Description: DATASHEET; ComponentLink2URL: http://portal.fciconnect.com/Comergent//fci/drawing/20020107.pdf; Supplier 1: Mouser; Supplier Part Number 1: 649-220107-C031A01LF; Manufacturer Part Number: OQ0312500000G; Stock 1: 2129; Pricing 1: 1=0,64000, 10=0,34200, 25=0,20600, 100=0,19900, 250=0,16800, 500=0,14500 (USD); RoHS: No
footprint TERM_BLOCK_OQ0312500000G (3 Position Terminal Block Header, Male Pins, Shrouded (4 Side) 0.138" (3.50mm) Vertical Through Hole)
pins: 1, 2, 3

## T_BLOCK 3POS  1755749
designator CN?, comment AC IN  Supplier Part Number 1: 277-1151-ND
TERM BLOCK HDR 3POS 90DEG 5.08MM; MPN: 0395311004; Manufacturer 1: Phoenix Contact; Manufacturer Part Number 1: 1755749; value: VALOR; Fabricante: MOLEX; Number of Positions Per Level: 2; Number of Levels: 1; Current: 10A; Voltage: 300V; Current Rating: 12A; Voltage Rating: 320V; Connector Type: Socket; Approvals: UL,CSA,VDE,CB; Description 1: TERM BLOCK HDR 3POS VERT 5.08MM; Voltage Rating (DC): 250V; Footprint: TERM BLOCK  4POS; RoHS: Yes; Mount: Through Hole; Weight: 5.78493oz; Contact Material: Tin; Color: Green; Contact Plating: Tin; Housing Material: Polyamide; Housing Color: Green; Package Quantity: 50; Packaging: Bulk; Termination: Solder; Number of Rows: 1; Number of Poles: 2; Number of Positions: 2; Number of Contacts: 2; Max Current Rating: 12A; Orientation: Right Angle; Type: Integrated Circuit (IC); Length: 12.16mm; Height: 13.7mm; Pitch: 5.08mm; Width: 19mm; Depth: 19mm; Flammability Rating: UL94 V-0; Lead Free: Lead Free; ComponentLink1URL: https://datasheet.ciiva.com/16096/1786404-16096800.pdf?src-supplier=Onlinecomponents.com; ComponentLink1Description: https://datasheet.ciiva.com/16096/1786404-16096800.pdf?src-supplier=Onlinecomponents.com; ComponentLink2URL: https://datasheet.ciiva.com/11748/0900766b800b6097-11748807.pdf?src-supplier=RSComponents; ComponentLink2Description: https://datasheet.ciiva.com/11748/0900766b800b6097-11748807.pdf?src-supplier=RSComponents; ComponentLink3URL: https://datasheet.ciiva.com/6747/1786404-6747449.pdf?src-supplier=Digi-Key; ComponentLink3Description: https://datasheet.ciiva.com/6747/1786404-6747449.pdf?src-supplier=Digi-Key; ComponentLink4URL: https://datasheet.ciiva.com/29209/567660-da-01-de-grundgehaeuse-1786404-50-st-29209089.pdf?src-supplier=Conrad; ComponentLink4Description: https://datasheet.ciiva.com/29209/567660-da-01-de-grundgehaeuse-1786404-50-st-29209089.pdf?src-supplier=Conrad; ComponentLink5URL: https://datasheet.ciiva.com/16096/1786417-16096802.pdf?src-supplier=Onlinecomponents.com; ComponentLink5Description: https://datasheet.ciiva.com/16096/1786417-16096802.pdf?src-supplier=Onlinecomponents.com; ComponentLink6URL: https://datasheet.ciiva.com/15197/getdatasheetpartid-198323-15197429.pdf?src-supplier=Verical; ComponentLink6Description: https://datasheet.ciiva.com/15197/getdatasheetpartid-198323-15197429.pdf?src-supplier=Verical; ComponentLink7URL: https://datasheet.ciiva.com/11748/0900766b800b6097-11748345.pdf?src-supplier=RSComponents; ComponentLink7Description: https://datasheet.ciiva.com/11748/0900766b800b6097-11748345.pdf?src-supplier=RSComponents; ComponentLink8URL: https://datasheet.ciiva.com/6762/1786417-6762580.pdf?src-supplier=Digi-Key; ComponentLink8Description: https://datasheet.ciiva.com/6762/1786417-6762580.pdf?src-supplier=Digi-Key; ComponentLink9URL: https://datasheet.ciiva.com/29210/569638-da-01-de-grundgehaeuse-1786417-50-st-29210794.pdf?src-supplier=Conrad; ComponentLink9Description: https://datasheet.ciiva.com/29210/569638-da-01-de-grundgehaeuse-1786417-50-st-29210794.pdf?src-supplier=Conrad; ComponentLink10URL: https://datasheet.ciiva.com/16939/70055376-16939398.pdf?src-supplier=Allied+Electronics; ComponentLink10Description: https://datasheet.ciiva.com/16939/70055376-16939398.pdf?src-supplier=Allied+Electronics; Supplier 1: Digi-Key; Stock 1: 3393; Pricing 1: 1=1,03000, 10=0,99000, 50=0,94720, 100=0,92130, 250=0,86100, 500=0,79212, 1000=0,73185, 2500=0,69741, 5000=0,65436 (USD); REACH SVHC: Unknown; ComponentLink11URL: https://datasheet.ciiva.com/15197/getdatasheetpartid-176345-15197315.pdf?src-supplier=Verical; ComponentLink11Description: https://datasheet.ciiva.com/15197/getdatasheetpartid-176345-15197315.pdf?src-supplier=Verical; ComponentLink12URL: https://datasheet.ciiva.com/795/1755749-795419.pdf?src-supplier=Digi-Key; ComponentLink12Description: https://datasheet.ciiva.com/795/1755749-795419.pdf?src-supplier=Digi-Key; ComponentLink13URL: https://datasheet.ciiva.com/16096/1755749-16096362.pdf?src-supplier=Onlinecomponents.com; ComponentLink13Description: https://datasheet.ciiva.com/16096/1755749-16096362.pdf?src-supplier=Onlinecomponents.com; ComponentLink14URL: https://datasheet.ciiva.com/29210/569612-da-01-en-grundgehaeuse-1755749-250-st-29210780.pdf?src-supplier=Conrad; ComponentLink14Description: https://datasheet.ciiva.com/29210/569612-da-01-en-grundgehaeuse-1755749-250-st-29210780.pdf?src-supplier=Conrad; ComponentLink15URL: https://datasheet.ciiva.com/33105/1755749-33105914.pdf?src-supplier=Today+Components; ComponentLink15Description: https://datasheet.ciiva.com/33105/1755749-33105914.pdf?src-supplier=Today+Components
footprint T_BLOCK 1755749
pins: 1, 2, 3

## T_BLOCK 4POS  1786837
designator CN?, comment VALOR
TERM BLOCK HDR 4POS 90DEG 3.5MM; MPN: 1786837; Manufacturer: Phoenix Contact; Manufacturer Part Number: DMC 15/ 2-G1-35 P20THR; Fabricante: MOLEX; Current Rating: 8A; Voltage Rating: 160V; Number of Positions Per Level: 2; Voltage: 150V; Connector Type: Plug; Gender: Male; Pitch: 0.138inch; value: VALOR; Footprint: TERM BLOCK  4POS; ComponentLink1Description: LOJA; ComponentLink1URL: https://www.digikey.com/product-detail/en/phoenix-contact/1786837/277-9774-ND/2743661; Supplier 1: Digi-Key; Supplier Part Number 1: 277-9774-ND; Stock 1: 564; Pricing 1: 1=1,32000, 10=1,28300, 50=1,19900, 100=1,10310, 250=1,01916, 500=0,97120, 1000=0,91124 (USD); RoHS: Yes; Mount: Through Hole; Color: Black; Contact Plating: Tin; Housing Color: Black; Housing Material: Liquid Crystal Polymer; Contact Material: Tin; Package Quantity: 50; Packaging: Bulk; Number of Levels: 2; Termination: Solder; Current: 8A; Number of Positions: 2; Number of Contacts: 2; Number of Poles: 2; Number of Rows: 2; Length: 7.8mm; Height: 11.6mm; Width: 12.8mm; Lead Free: Lead Free; REACH SVHC: Unknown; ComponentLink2URL: https://datasheet.ciiva.com/815/1786837-815947.pdf?src-supplier=Digi-Key; ComponentLink2Description: https://datasheet.ciiva.com/815/1786837-815947.pdf?src-supplier=Digi-Key; ComponentLink3URL: https://datasheet.ciiva.com/14109/dmc15-2-g1-35p20thr-eng-tds-14109772.pdf?src-supplier=Distrelec; ComponentLink3Description: https://datasheet.ciiva.com/14109/dmc15-2-g1-35p20thr-eng-tds-14109772.pdf?src-supplier=Distrelec; ComponentLink4URL: https://datasheet.ciiva.com/29211/717204-da-01-de-grundgehaeuse-1786837-50-st-29211189.pdf?src-supplier=Conrad; ComponentLink4Description: https://datasheet.ciiva.com/29211/717204-da-01-de-grundgehaeuse-1786837-50-st-29211189.pdf?src-supplier=Conrad; ComponentLink5URL: https://datasheet.ciiva.com/16939/70255286-16939882.pdf?src-supplier=Allied+Electronics; ComponentLink5Description: https://datasheet.ciiva.com/16939/70255286-16939882.pdf?src-supplier=Allied+Electronics
footprint T_BLOCK_ 1786837 (TERM BLOCK HDR 4POS 90DEG 3.5MM)
pins: 1, 2, 3, 4

## T_BLOCK 4POS  0395011004
designator CN?, comment VALOR
TERM BLOCK HDR 4POS VERT 3.5MM; MPN: 0395011004; Fabricante: MOLEX; Number of Positions: 4; Gender: Male; Max Voltage Rating (AC): 300V; Number of Levels: 1; Current: 8A; value: VALOR; Footprint: TERM BLOCK  4POS; ComponentLink1Description: LOJA; ComponentLink1URL: https://www.digikey.com/product-detail/en/molex/0395011004/WM7753-ND/1280604; Supplier 1: Mouser; Supplier Part Number 1: 538-39501-1004; Manufacturer: Molex; Manufacturer Part Number: 0395011004; Stock 1: 1344; Pricing 1: 1=1,07000, 10=0,90800, 100=0,77600, 500=0,66500, 1000=0,59200, 2500=0,52800 (USD); RoHS: Yes; Mount: Through Hole; Housing Material: Polyamide; Color: Black; Contact Material: Brass; Housing Color: Black; Contact Plating: Tin; Min Operating Temperature: -40°C; Max Operating Temperature: 105°C; Packaging: Bulk; Number of Rows: 1; Orientation: Vertical; Termination: Solder; Number of Contacts: 4; Number of Positions Per Level: 4; Voltage: 300V; Length: 15.4mm; Pitch: 3.5mm; Depth: 6.9mm; ComponentLink2URL: https://datasheet.ciiva.com/18549/395011002-sd-18549051.pdf?src-supplier=Digi-Key; ComponentLink2Description: https://datasheet.ciiva.com/18549/395011002-sd-18549051.pdf?src-supplier=Digi-Key
footprint T_BLOCK_ 0395011004 (4Position Terminal Block Header, Male Pins, Shrouded (4 Side) 0.138" (3.50mm) Vertical Through Hole)
pins: 1, 2, 3, 4

## T_BLOCK 4POS  0395311004
designator CN?, comment VALOR
TERM BLOCK HDR 4POS VERT 5.08MM; MPN: 0395311004; Fabricante: MOLEX; Number of Positions: 4; Number of Levels: 1; Current: 15A; Voltage: 300V; value: VALOR; Footprint: TERM BLOCK  4POS; ComponentLink1Description: LOJA; ComponentLink1URL: https://www.digikey.com/product-detail/en/molex/0395311004/WM7839-ND/1280690; Supplier 1: Digi-Key; Supplier Part Number 1: WM7839-ND; Manufacturer: Molex; Manufacturer Part Number: 0395311004; Stock 1: 789; Pricing 1: 1=1,02000, 10=0,89300, 100=0,77000, 500=0,63000, 1000=0,56000, 5000=0,49000, 10000=0,46550 (USD); RoHS: Yes; Mount: Through Hole; Color: Black; Contact Plating: Tin; Contact Material: Brass; Housing Material: Polyamide; Housing Color: Black; Min Operating Temperature: -40°C; Max Operating Temperature: 105°C; Packaging: Bulk; Number of Rows: 1; Termination: Solder; Number of Contacts: 4; Orientation: Vertical; Number of Positions Per Level: 4; Max Voltage Rating (AC): 300V; Length: 22.32mm; Pitch: 5.08mm; Depth: 8.3mm; ComponentLink2URL: https://datasheet.ciiva.com/3933/315020395311004-terminal-blocks-3933717.pdf?src-supplier=Arrow; ComponentLink2Description: https://datasheet.ciiva.com/3933/315020395311004-terminal-blocks-3933717.pdf?src-supplier=Arrow
footprint T_BLOCK_ 0395311004 (4Position Terminal Block HeadTERM BLOCK HDR 4POS VERT 5.08MM PTH)
pins: 1, 2, 3, 4

## T_BLOCK 4POS _0395021004
designator CN?, comment VALOR
TERM BLOCK HDR 4POS VERT 3.5MM R/A; MPN: 0395021004; Fabricante: MOLEX; Number of Contacts: 4; Contact Resistance: 8mR; Gender: Male; Current: 8A; Voltage: 300V; Number of Levels: 1; value: VALOR; Footprint: TERM BLOCK  4POS; ComponentLink1Description: LOJA; ComponentLink1URL: https://www.digikey.com/products/en?keywords=0395021004; Supplier 1: Digi-Key; Supplier Part Number 1: WM7772-ND; Manufacturer: Molex; Manufacturer Part Number: 0395021004; Stock 1: 974; Pricing 1: 1=1,07000, 10=0,94400, 100=0,81400, 500=0,66600, 1000=0,59200, 5000=0,51800, 10000=0,49210 (USD); RoHS: Yes; Mount: Through Hole; Housing Material: Polyamide; Color: Black; Contact Plating: Tin; Contact Material: Brass; Housing Color: Black; Min Operating Temperature: -40°C; Max Operating Temperature: 105°C; Termination: Solder; Packaging: Bulk; Number of Rows: 1; Orientation: Right Angle; Number of Positions: 4; Number of Positions Per Level: 4; Length: 15.39mm; Pitch: 3.5mm; Depth: 9.2mm; ComponentLink2URL: https://datasheet.ciiva.com/41798/395021002-sd-41798760.pdf?src-supplier=Digi-Key; ComponentLink2Description: https://datasheet.ciiva.com/41798/395021002-sd-41798760.pdf?src-supplier=Digi-Key
footprint T_BLOCK_ 0395021004_R/A (TERM BLOCK HDR 4POS 90DEG 3.5MM)
pins: 1, 2, 3, 4

## T_BLOCK 4POS_1922501
designator CN?, comment VALOR
TERM BLOCK HDR 4POS VERT 10.16MM; MPN: 1922501; Manufacturer: Phoenix Contact; Fabricante: PHOENIX; Current Rating: 76A; Number of Contacts: 4; Max Current Rating: 55A; Voltage Rating: 630V; Number of Levels: 1; Current: 5A; Voltage: 600V; value: VALOR; Footprint: TERM BLOCK  4POS; ComponentLink1Description: LOJA; ComponentLink1URL: https://www.digikey.com/product-detail/en/phoenix-contact/1922501/277-9056-ND/2528765; Supplier 1: Digi-Key; Supplier Part Number 1: 277-9056-ND; Manufacturer Part Number: 1922501; Stock 1: 16; Pricing 1: 1=10,53000, 10=10,24700, 50=9,57660, 100=8,81040, 250=8,14008, 500=7,75696, 1000=7,27818 (USD); RoHS: Yes; Mount: Through Hole; Weight: 0.530873oz; Color: Green; Contact Plating: Silver; Housing Color: Green; Package Quantity: 50; Packaging: Bulk; Orientation: Straight; Termination: Solder; Number of Rows: 1; Number of Positions Per Level: 4; Number of Positions: 4; Length: 43.68mm; Pitch: 10.16mm; Depth: 13.4mm; ComponentLink2URL: https://datasheet.ciiva.com/15197/getdatasheetpartid-190954-15197683.pdf?src-supplier=Verical; ComponentLink2Description: https://datasheet.ciiva.com/15197/getdatasheetpartid-190954-15197683.pdf?src-supplier=Verical; ComponentLink3URL: https://datasheet.ciiva.com/29207/195992-da-01-de-grundgehaeuse-1922501-50-st-29207210.pdf?src-supplier=Conrad; ComponentLink3Description: https://datasheet.ciiva.com/29207/195992-da-01-de-grundgehaeuse-1922501-50-st-29207210.pdf?src-supplier=Conrad; ComponentLink4URL: https://datasheet.ciiva.com/817/powercombiconplugsandheaders-817652.pdf?src-supplier=Digi-Key; ComponentLink4Description: https://datasheet.ciiva.com/817/powercombiconplugsandheaders-817652.pdf?src-supplier=Digi-Key; ComponentLink5URL: https://datasheet.ciiva.com/15048/powercombiconplugsandheaders-15048758.pdf?src-supplier=Digi-Key; ComponentLink5Description: https://datasheet.ciiva.com/15048/powercombiconplugsandheaders-15048758.pdf?src-supplier=Digi-Key
footprint T_BLOCK_ 1922501 (4Position Terminal Block HeadTERM BLOCK HDR 4POS VERT 5.08MM PTH)
pins: 1, 2, 3, 4